# Altium integrated library CD4051BM.IntLib: 1 symbol
Pins are listed as number, name and electrical type; pins without a type are passive.

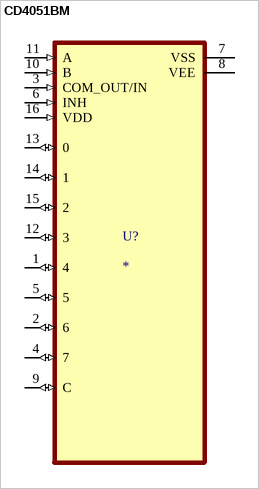
[diagram p0: symbol CD4051BM]

## CD4051BM
designator U?
20-V, 8:1, 1-channel analog multiplexer with logic-level conversion; MF: Texas Instruments; MP: CD4051BM; SnapEDA_Link: https://www.snapeda.com/parts/CD4051BM/Texas+Instruments/view-part/?ref=snap; Package: SOIC-16 Texas Instruments; Value: *; Check_prices: https://www.snapeda.com/parts/CD4051BM/Texas+Instruments/view-part/?ref=eda
footprint SOIC127P600X175-16N
pins: 1 4 (io), 2 6 (io), 3 COM_OUT/IN (in), 4 7 (io), 5 (io), 6 INH (in), 7 VSS (power), 8 VEE (power), 9 C (io), 10 B (in), 11 A (in), 12 3 (io), 13 0 (io), 14 1 (io), 15 2 (io), 16 VDD (in)